# Altium footprint library SparkFun-Connectors.PCBLIB: 309 footprints (part 20 of 20)
Each footprint in its own frame and in the unit in brackets; x right, y up, seen from the top. Pads: shape width x height; smd on the part's side, far side on the other; paste and mask are expansions set on the pad; w line width, h text height; cw(c..) or ccw(c..) is an arc to the next point about the centre after c.
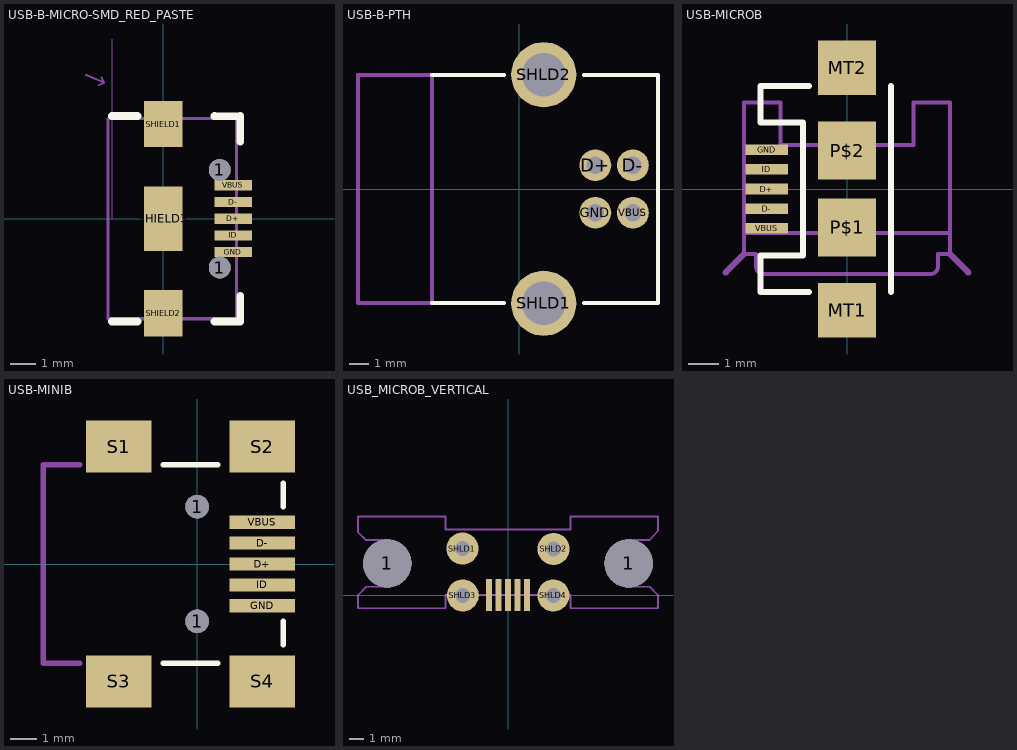
[diagram p19: the footprints below, top view; thin cyan lines are the x and y axes]

## USB-B-MICRO-SMD_RED_PASTE [mm]
pads (10):
  round 0.85 hole 0.85: 1(2.2,-1.9) 1(2.2,1.9)
  rect 1.45x0.4 smd: D+(2.725,0) D-(2.725,0.65) GND(2.725,-1.3) ID(2.725,-0.65) VBUS(2.725,1.3)
  rect 1.5x1.8 smd: SHIELD1(0,3.685) SHIELD2(0,-3.685)
  rect 1.5x2.5 smd: SHIELD3(0,0)
Top Overlay:
  lines w0.305: -2,-4 -1,-4 ; -2,4 -1,4 ; 2,-4 3,-4 3,-3 ; 2,4 2,3.993 2.982,3.993 ; 3,3 3,4
Top Paste:
  rectangle: -0.75,2.784 0.75,4.584
  rectangle: -0.35,-0.75 0.35,0.75
  rectangle: -0.75,-4.584 0.75,-2.784
  rectangle: 2.1,0.5 3.35,0.8
  rectangle: 2.1,-0.15 3.35,0.15
  rectangle: 2.1,-0.8 3.35,-0.5
Top Solder:
  rectangle: -0.85,2.684 0.85,4.684
  rectangle: -0.85,-4.684 0.85,-2.684
  rectangle: -0.85,-1.35 0.85,1.35
Mechanical 14:
  lines w0.127: -2.15,-3.9 -2.15,3.9 2.85,3.9 2.85,-3.9 -2.15,-3.9
Mechanical 16:
  lines w0: -2,0 -2,7
  lines w0.08: -3,5.6 -2.3,5.3 ; -2.5,5.2 -2.3,5.3 ; -2.4,5.5 -2.3,5.3
  text "PCB Front" at -4.66,5.96 h0.47

## USB-B-PTH [mil]
pads (6):
  round 66 hole 36: D+(157.48,49.21) D-(235.48,49.21) GND(157.48,-49.21) VBUS(235.48,-49.21)
  round 135 hole 90: SHLD1(50.48,-237) SHLD2(50.48,237)
Top Overlay:
  lines w8: -181.1,-236.22 -31.5,-236.22 ; -181.1,236.22 -31.5,236.22 ; 133.86,-236.22 287.4,-236.22 287.4,236.22 133.86,236.22
Mechanical 16:
  lines w8: -334.65,-236.22 -181.1,-236.22 -181.1,236.22 -334.65,236.22 -334.65,-236.22

## USB-MICROB [mm]
pads (9):
  rect 1.4x0.35 smd: D+(-2.65,0) D-(-2.65,-0.65) GND(-2.65,1.3) ID(-2.65,0.65) VBUS(-2.65,-1.3)
  rect 1.9x1.8 smd: MT1(0,-4) MT2(0,4)
  rect 1.9x1.9 smd: P$1(0,-1.27) P$2(0,1.27)
Top Overlay:
  lines w0.203: -1.25,-3.4 -2.85,-3.4 -2.85,-2.2 -1.45,-2.2 -1.45,2.2 -2.85,2.2 -2.85,3.4 -1.25,3.4 ; 1.45,-3.4 1.45,3.4
Mechanical 16:
  lines w0.127: -3.4,-1.45 -3.4,-2.15 -3,-2.15 -3,-2.55 ccw(c-2.762,-2.565) -2.8,-2.8 2.75,-2.8 ccw(c2.765,-2.563) 3,-2.6 3,-2.15 3.4,-2.15 3.4,-1.45 ; -3.4,-1.45 -3.4,2.85 -2.2,2.85 -2.2,1.45 2.2,1.45 2.2,2.85 3.4,2.85 3.4,-1.45 ; -3.4,-1.45 3.4,-1.45
  lines w0.203: -4,-2.75 -3.4,-2.15 ; 3.4,-2.15 4,-2.75

## USB-MINIB [mm]
pads (11):
  round 0.9 hole 0.9: 1(0,-2.2) 1(0,2.2)
  rect 2.5x0.5 smd: D+(2.5,0) D-(2.5,0.8) GND(2.5,-1.6) ID(2.5,-0.8) VBUS(2.5,1.6)
  rect 2.5x2 smd: S1(-3,4.5) S2(2.5,4.5) S3(-3,-4.5) S4(2.5,-4.5)
Top Overlay:
  lines w0.203: -1.3,-3.8 0.8,-3.8 ; -1.3,3.8 0.8,3.8 ; 3.3,-3.1 3.3,-2.2 ; 3.3,2.2 3.3,3.1
Mechanical 16:
  lines w0.203: -4.5,-3.8 -5.9,-3.8 -5.9,3.8 -4.5,3.8

## USB_MICROB_VERTICAL [mil]
pads (11):
  round 129.92 hole 129.92: 1(-325.79,85.43) 1(325.79,85.43)
  rect 15.75x86.61 smd: D+(0,0) D-(-25.59,0) GND(51.18,0) ID(25.59,0) VBUS(-51.18,0)
  round 86.61 hole 40: SHLD1(-122.86,125.32) SHLD2(122.91,124.42) SHLD3(-121.97,-1.06) SHLD4(122.36,-1.01)
Mechanical 16:
  lines w5: -404.53,-35.43 -404.53,0 -381.89,22.44 -325.79,22.44 ccw(c-325.79,85.44) -325.79,148.43 -381.89,148.43 -404.53,169.29 -404.53,211.81 -168.31,211.81 -168.31,176.38 168.31,176.38 168.31,211.81 404.53,211.81 404.53,173.23 381.89,148.43 325.79,148.43 ccw(c325.79,85.44) 325.79,22.44 381.89,22.44 404.53,0 404.53,-35.43 168.31,-35.43 168.31,0 -168.31,0 -168.31,-35.43 -404.53,-35.43